# Altium schematic symbol library 436500200.SchLib: 1 symbol
Pins are listed as number, name and electrical type; pins without a type are passive.

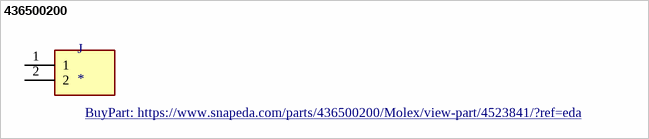
[diagram p0: symbol 436500200]

## 436500200
designator J
Connector Header Through Hole, Right Angle 2 position 0.118 (3.00mm); MP: 436500200; MF: Molex; Availability: Warning; SnapEDA_Link: https://www.snapeda.com/parts/436500200/Molex/view-part/4523841/?ref=snap; Package: None; Value: *; Price: None; BuyPart: https://www.snapeda.com/parts/436500200/Molex/view-part/4523841/?ref=eda
footprint MOLEX_436500200
pins: 1, 2